# Altium schematic symbol library Photo PNP.Schlib: 1 symbol
Pins are listed as number, name and electrical type; pins without a type are passive.

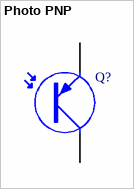
[diagram p0: symbol Photo PNP]

## Photo PNP
designator Q?
PNP Phototransistor
pins: 1 C, 3 E